# Altium footprint library Nixie_Supply.PcbLib: 11 footprints
Each footprint in its own frame and in the unit in brackets; x right, y up, seen from the top. Pads: shape width x height; smd on the part's side, far side on the other; paste and mask are expansions set on the pad; w line width, h text height; cw(c..) or ccw(c..) is an arc to the next point about the centre after c.
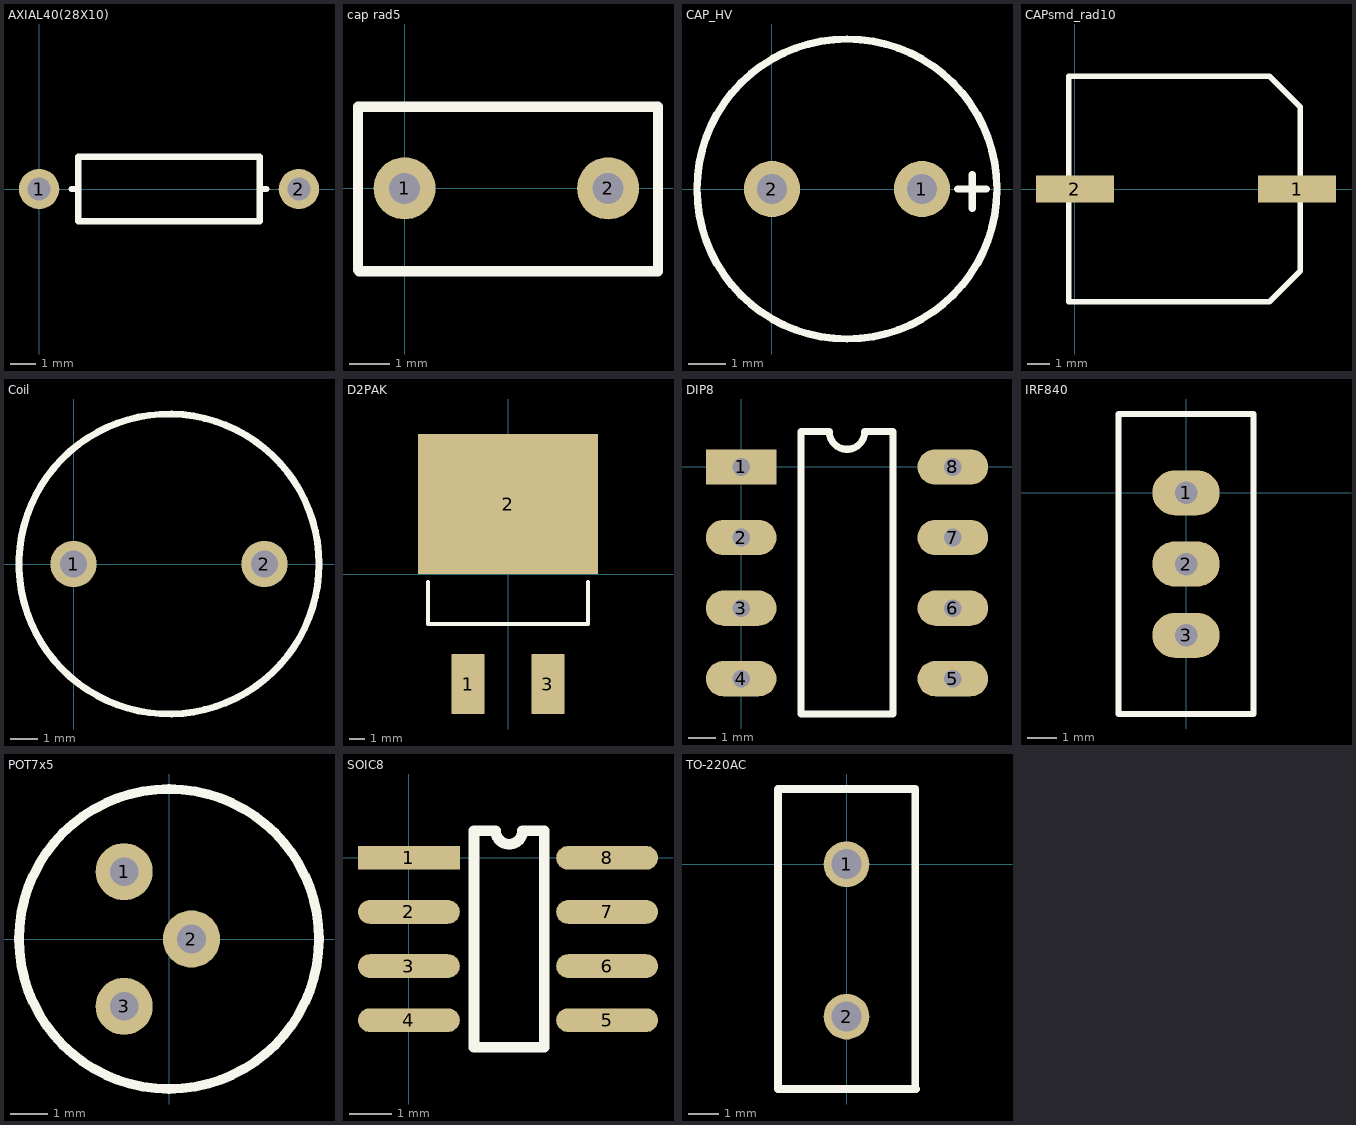
[diagram p0: the footprints below, top view; thin cyan lines are the x and y axes]

## AXIAL40(28X10) [mil]
pads (2):
  round 62 hole 35.43: 1(0,0) 2(400,0)
Top Overlay:
  lines w10: 50,0 60,0 ; 340,0 350,0 ; 60,-50 340,-50 340,50 60,50 60,-50

## cap rad5 [mil]
pads (2):
  round 60 hole 30: 1(0,0) 2(196.85,0)
Top Overlay:
  lines w10: -45,-78.74 -45,78.74 245,78.74 245,-80 -43.74,-80 -45,-78.74

## CAP_HV [mm]
pads (2):
  round 1.5 hole 0.8: 1(4,0) 2(0,0)
Top Overlay:
  circle w0.2: c2,0 r4
  lines w0.2: 4.953,0 5.715,0 ; 5.334,-0.508 5.334,0.381
3D body: height 12, standoff 0, extent -2,-4.064 5.969,3.92

## CAPsmd_rad10 [mm]
height 13.5
pads (2):
  rect 3.5x1.2 smd: 1(10,0) 2(0,0)
Top Overlay:
  lines w0.254: -0.27,-5.08 8.747,-5.08 10.144,-3.683 10.144,3.683 8.747,5.08 -0.27,5.08 -0.27,-5.08

## Coil [mm]
pads (2):
  round 1.7 hole 1: 1(0,0) 2(7,0)
Top Overlay:
  circle w0.254: c3.5,0 r5.5
3D body: height 11.5, standoff 0, extent -2.065,-5.371 8.929,5.626

## D2PAK [mil]
pads (3):
  rect 82x150 smd: 1(-100,-275) 3(100,-275)
  rect 450x350 smd: 2(0,175)
Top Overlay:
  lines w10: -200,-20 -200,-125 200,-125 200,-20
3D body: height 165.95, standoff 0, extent -193.33,-291.71 193.35,283.16

## DIP8 [mil]
pads (8):
  rect 100x50 hole 25: 1(0,0)
  oval 100x50 hole 25: 2(0,-100) 3(0,-200) 4(0,-300) 5(300,-300) 6(300,-200) 7(300,-100) 8(300,0)
Top Overlay:
  lines w10: 85,-350 85,50 125,50 ccw(c150,50) 175,50 215,50 215,-350 85,-350
3D body: height 142.96, standoff -126.72, extent -15,-337.01 320.71,37.01

## IRF840 [mil]
pads (3):
  rrect100% 90x60 hole 30: 1(0,0)
  oval 90x60 hole 30: 2(0,-95) 3(0,-190)
Top Overlay:
  lines w8: -90,-295 -90,105 90,105 90,-295 -90,-295

## POT7x5 [mil]
pads (3):
  round 60 hole 30: 1(-47.09,70.71) 2(23.62,0) 3(-47.09,-70.71)
Top Overlay:
  circle w10: c0,0 r157.48
3D body: height 236.22, standoff 0, extent -137.64,-137.75 137.8,137.76

## SOIC8 [mil]
pads (8):
  rect 94x22 smd: 1(0,0)
  oval 94x22 smd: 2(0,-50) 3(0,-100) 4(0,-150) 5(183,-150) 6(183,-100) 7(183,-50) 8(183,0)
Top Overlay:
  lines w10: 60,-175 125,-175 125,25 105,25 cw(c92.5,25) 80,25 60,25 60,-175
3D body: height 78.74, standoff 0.13, extent -31.32,-173.42 211.32,23.43

## TO-220AC [mil]
pads (2):
  round 60 hole 39.37: 1(0,0) 2(0,-200)
Top Overlay:
  lines w10: 90,-295 90,98.7 -90,98.7 -90,-295 91.1,-295